# EAGLE library part LCD_20X4 (library LCD_20X4)
Livraria criada para representar o display LCD 20x4 Referência: ERM2004-2 Series - EastRising Technology Co., Limited
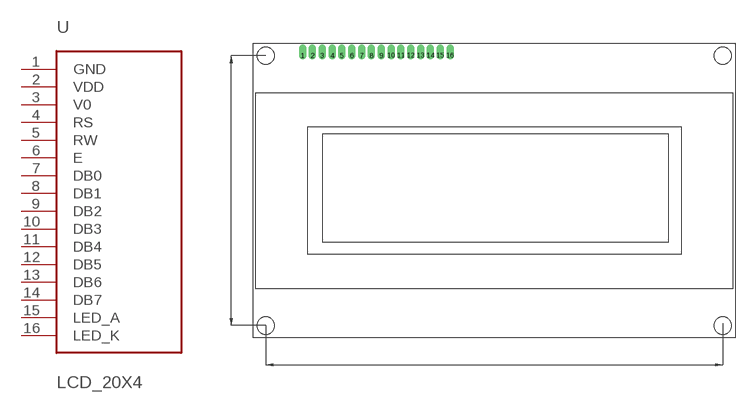
[diagram p0: symbol with the pads of PDIP; footprint PDIP]

Designator prefix -

## LCD_20X4  [PDIP]
1  GND  pwr
2  VDD  pwr
3  V0  in
4  RS
5  RW
6  E
7  DB0
8  DB1
9  DB2
10  DB3
11  DB4
12  DB5
13  DB6
14  DB7
15  LED_A
16  LED_K

## Footprint PDIP (pad centres in mm)
drill 1 offset: 1 -38.5,26.5; 2 -36.5,26.5; 3 -34.5,26.5; 4 -32.5,26.5; 5 -30.5,26.5; 6 -28.5,26.5; 7 -26.5,26.5; 8 -24.5,26.5; 9 -22.5,26.5; 10 -20.5,26.5; 11 -18.5,26.5; 12 -16.5,26.5; 13 -14.5,26.5; 14 -12.5,26.5; 15 -10.5,26.5; 16 -8.5,26.5
hole 3.5 at -46,-28.5
hole 3.5 at -46,26.5
hole 3.5 at 47,-28.5
hole 3.5 at 47,26.5